# EAGLE library part S11B-PH (library con-jst-ph)
JST PH series header 2.00mm pitch disconnectable crimp style connectors, horizontal (side entry type), 11 pins
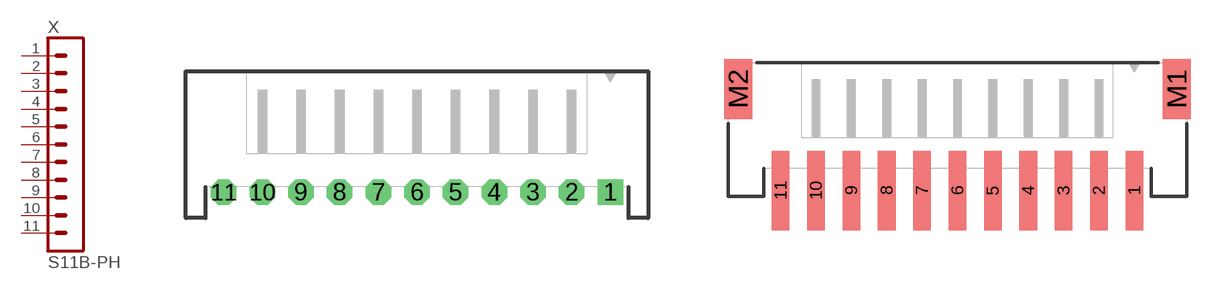
[diagram p16: symbol with the pads of S11B-PH-KL-S; footprints S11B-PH-KL-S, S11B-PH-SM4-TB]

Designator prefix X

## S11B-PH-KL-S  [S11B-PH-KL-S]
1  1  pas
2  2  pas
3  3  pas
4  4  pas
5  5  pas
6  6  pas
7  7  pas
8  8  pas
9  9  pas
10  10  pas
11  11  pas

## S11B-PH-SM4-TB  [S11B-PH-SM4-TB]
Pads as for S11B-PH-KL-S

## Footprint S11B-PH-KL-S (pad centres in mm)
JST PH series header 2.00mm pitch disconnectable crimp style connectors, through-hole horizontal (side entry type), 11 pins
drill 0.7 pad 1.321 square: 1 10,0
drill 0.7 pad 1.321 octagon: 2 8,0; 3 6,0; 4 4,0; 5 2,0; 6 0,0; 7 -2,0; 8 -4,0; 9 -6,0; 10 -8,0; 11 -10,0

## Footprint S11B-PH-SM4-TB (pad centres in mm)
JST PH series header 2.00mm pitch disconnectable crimp style connectors, SMT horizontal (side entry type), 11 pins
smd 1 x 4.5: 1 10,0; 2 8,0; 3 6,0; 4 4,0; 5 2,0; 6 0,0; 7 -2,0; 8 -4,0; 9 -6,0; 10 -8,0; 11 -10,0
smd 1.6 x 3.4: M1 12.4,5.75; M2 -12.4,5.75